# Altium schematic symbol library IO_Converter.SchLib: 24 symbols
Pins are listed as number, name and electrical type; pins without a type are passive.

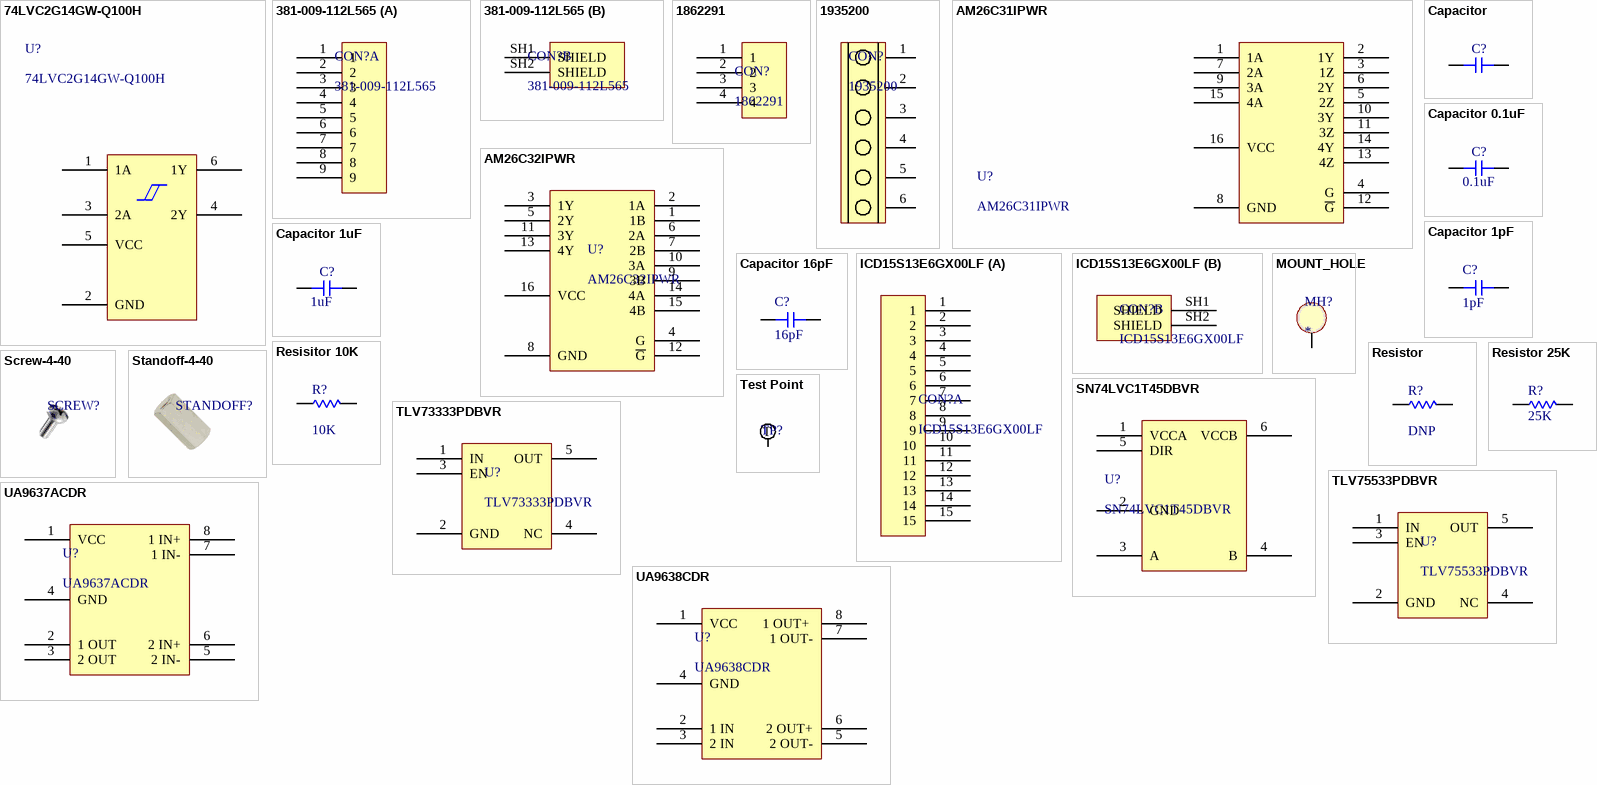
[diagram p0: symbols 74LVC2G14GW-Q100H to UA9638CDR]

## 74LVC2G14GW-Q100H
designator U?
Inverter IC 2 Channel Schmitt Trigger SOT-363; Supplier 1: DigiKey; Supplier Part Number 1: 1727-2072-1-ND
footprint TSOP65P210X110-6N (TSOP, 6-Leads, Body 2.00x1.25mm, Pitch 0.65mm, IPC Medium Density)
pins: 1 1A, 2 GND, 3 2A, 4 2Y, 5 VCC, 6 1Y

## 381-009-112L565
designator CON?
9 Position D-Type, Micro-D Plug, Male Pins Connector; Supplier 1: DigiKey; Supplier Part Number 1: NOR1136-ND
footprint 381-009-112L565
part A pins: 1, 2, 3, 4, 5, 6, 7, 8, 9
part B pins: SH1 SHIELD, SH2 SHIELD

## 1862291
designator CON?
TERM BLOCK 4POS 45DEG 5MM PCB; Supplier 1: DigiKey; Supplier Part Number 1: 277-12141-ND
footprint 1862291
pins: 1, 2, 3, 4

## 1935200
designator CON?
6 Position Wire to Board Terminal Block Horizontal with Board 0.197" (5.00mm) Through Hole; Supplier 1: Digi-Key; Supplier Part Number 1: 277-1581-ND
footprint 1935200
pins: 1 12, 2 13, 3, 4, 5, 6

## AM26C31IPWR
designator U?
IC RECEIVER 0/4 16TSSOP; Supplier 1: Digi-Key; Supplier Part Number 1: 296-30087-1-ND
footprint TSOP65P640X120-16N (TSOP, 16-Leads, Body 5.00x4.40mm, Pitch 0.65mm, IPC Medium Density)
pins: 1 1A, 2 1Y, 3 1Z, 4 G, 5 2Z, 6 2Y, 7 2A, 8 GND, 9 3A, 10 3Y, 11 3Z, 12 ~{G}, 13 4Z, 14 4Y, 15 4A, 16 VCC

## AM26C32IPWR
designator U?
IC RECEIVER 0/4 16TSSOP; Supplier 1: Digi-Key; Supplier Part Number 1: 296-30088-1-ND
footprint TSOP65P640X120-16N (TSOP, 16-Leads, Body 5.00x4.40mm, Pitch 0.65mm, IPC Medium Density)
pins: 1 1B, 2 1A, 3 1Y, 4 G, 5 2Y, 6 2A, 7 2B, 8 GND, 9 3B, 10 3A, 11 3Y, 12 ~{G}, 13 4Y, 14 4A, 15 4B, 16 VCC

## Capacitor
designator C?, comment DNP  (value not drawn)  (no BOM)
Value: DNP
simulation model CAP (Capacitor)
footprint 0603-CAP
pins: 1, 2

## Capacitor 0.1uF
designator C?, comment value 0.1uF  (hidden comment: CC0603KRX7R8BB104)
0.1µF ±10% 25V Ceramic Capacitor X7R 0603 (1608 Metric); Supplier 1: Digi-Key; Supplier Part Number 1: 311-1341-1-ND
simulation model CAP (Capacitor)
footprint 0603-CAP
pins: 1, 2

## Capacitor 1pF
designator C?, comment value 1pF  (hidden comment: CC0603BRNPO9BN1R0)
±0.1pF 50V Ceramic Capacitor C0G, NP0 0603 (1608 Metric); Supplier 1: DigiKey; Supplier Part Number 1: 311-3346-1-ND
simulation model CAP (Capacitor)
footprint 0603-CAP
pins: 1, 2

## Capacitor 1uF
designator C?, comment value 1uF  (hidden comment: CL10A105KP8NNWC)
CAP CER 1UF 10V X5R 0603; Supplier 1: Digi-Key; Supplier Part Number 1: 1276-1863-1-ND
simulation model CAP (Capacitor)
footprint 0603-CAP
pins: 1, 2

## Capacitor 16pF
designator C?, comment value 16pF  (hidden comment: CC0603JRNPO9BN160)
±5% 50V Ceramic Capacitor C0G, NP0 0603 (1608 Metric); Supplier 1: DigiKey; Supplier Part Number 1: 311-3964-1-ND
simulation model CAP (Capacitor)
footprint 0603-CAP
pins: 1, 2

## ICD15S13E6GX00LF
designator CON?
15 Position D-Sub, High Density Receptacle, Female Sockets Connector; Supplier Part Number 1: 609-2801-ND; Supplier 1: Digi-Key
footprint ICD15S13E6GX00LF (CONN DSUB HD RCPT 15POS R/A SLDR)
part A pins: 1, 2, 3, 4, 5, 6, 7, 8, 9, 10, 11, 12, 13, 14, 15
part B pins: SH1 SHIELD, SH2 SHIELD

## MOUNT_HOLE
designator MH?  (no BOM)
MOUNTING HOLE
footprint MOUNTING_HOLE
pins: 1

## Resisitor 10K
designator R?, comment value 10K  (hidden comment: RT0603DRE0710KL)
10 ±0.5% 0.1W, 1/10W Chip Resistor 0603 (1608 Metric) - Thin Film; Supplier Part Number 1: YAG2318CT-ND; Supplier 1: DigiKey
simulation model RES (Resistor)
footprint 0603-RES
pins: 1, 2

## Resistor
designator R?, comment DNP  (no BOM)
Value: DNP
simulation model RES (Resistor)
footprint 0603-RES
pins: 1, 2

## Resistor 25K
designator R?, comment value 25K  (hidden comment: CPF-A-0805B25KE)  (no BOM)
25 ±0.1% 0.1W, 1/10W Chip Resistor 0805 (2012 Metric) Anti-Sulfur, Automotive AEC-Q200, Moisture Resistant Thin Film; Supplier 1: DigiKey; Supplier Part Number 1: 1712-CPF-A-0805B25KECT-ND
simulation model RES (Resistor)
footprint RESC2012X06N (Chip Resistor, 2-Leads, Body 2.00x1.25mm, IPC Medium Density)
pins: 1, 2

## Screw-4-40
designator SCREW?  (value not drawn)  (mechanical)
MACH SCREW PAN PHILLIPS #4-40; Supplier 1: Digi-Key; Supplier Part Number 1: 36-9900-ND

## SN74LVC1T45DBVR
designator U?
IC TRNSLTR BIDIRECTIONAL SOT23-6; Supplier 1: Digi-Key; Supplier Part Number 1: 296-16843-1-ND
footprint SOT95P280X145-6N (SOT23, 6-Leads, Body 2.90x2.80mm, Pitch 0.95mm, IPC Medium Density)
pins: 1 VCCA, 2 GND, 3 A, 4 B, 5 DIR, 6 VCCB

## Standoff-4-40
designator STANDOFF?  (value not drawn)  (mechanical)
HEX STANDOFF #4-40 BRASS 3/8; Supplier 1: Digi-Key; Supplier Part Number 1: 36-1803-ND

## Test Point
designator TP?, comment RCU-0C  (value not drawn)
PC TEST POINT NATURAL; Material - Insulation: No Insulation; Manufacturer Part Number: RCU-0C; Supplier Part Number: *; Supplier: *; Footprint: *; Supplier 1: Digi-Key; RoHS: RoHS Compliant; Category: Test and Measurement; Stock 1: 136646; Pricing 1: 1=0.22, 10=0.206, 25=0.1756, 50=0.1536, 100=0.1426, 250=0.12616, 500=0.12068, 1000=0.09874 (USD); Packaging: Cut Tape (CT); Part Status: Active; Type: PC Test Point; Mounting Type: Surface Mount; Color: Natural; Size / Dimension: 0.063" x 0.031" x 0.045" (1.60mm x 0.80mm x 1.15mm); Plating: -; Material - Body: -; ComponentLink1URL: http://www.te.com/commerce/DocumentDelivery/DDEController?Action=srchrtrv&DocNm=1773266&DocType=DS&DocLang=English; ComponentLink1Description: http://www.te.com/commerce/DocumentDelivery/DDEController?Action=srchrtrv&DocNm=1773266&DocType=DS&DocLang=English; Supplier Part Number 1: A106145CT-ND
footprint RCU-0C (0603 PROBE PAD)
pins: 1
text: T

## TLV73333PDBVR
designator U?
IC REG LINEAR 3.3V 300MA SOT23-5; Supplier 1: Digi-Key; Supplier Part Number 1: 296-40673-1-ND
footprint SOT95P280X145-5N (SOT23, 5-Leads, Body 2.90x2.80mm, Pitch 0.95mm, IPC Medium Density)
pins: 1 IN, 2 GND, 3 EN, 4 NC, 5 OUT

## TLV75533PDBVR
designator U?
IC REG LINEAR 3.3V 500MA SOT23-5; Supplier 1: Digi-Key; Supplier Part Number 1: 296-50411-1-ND
footprint SOT95P280X145-5N (SOT23, 5-Leads, Body 2.90x2.80mm, Pitch 0.95mm, IPC Medium Density)
pins: 1 IN, 2 GND, 3 EN, 4 NC, 5 OUT

## UA9637ACDR
designator U?
IC RECEIVER 0/2 8SOIC; Supplier 1: DigiKey; Supplier Part Number 1: 296-15056-1-ND
footprint SOIC127P600X175-8N (SOIC, 8-Leads, Body 4.91x3.90mm, Pitch 1.27mm, IPC Medium Density)
pins: 1 VCC, 2 1 OUT, 3 2 OUT, 4 GND, 5 2 IN-, 6 2 IN+, 7 1 IN-, 8 1 IN+

## UA9638CDR
designator U?
IC DRIVER 2/0 8SOIC; Supplier 1: DigiKey; Supplier Part Number 1: 296-15058-1-ND
footprint SOIC127P600X175-8N (SOIC, 8-Leads, Body 4.91x3.90mm, Pitch 1.27mm, IPC Medium Density)
pins: 1 VCC, 2 1 IN, 3 2 IN, 4 GND, 5 2 OUT-, 6 2 OUT+, 7 1 OUT-, 8 1 OUT+ 